# Altium footprint library Conn_JST_BM02B-SRSS-TB_LF_SN_eec_0.PcbLib: 1 footprints
Each footprint in its own frame and in the unit in brackets; x right, y up, seen from the top. Pads: shape width x height; smd on the part's side, far side on the other; paste and mask are expansions set on the pad; w line width, h text height; cw(c..) or ccw(c..) is an arc to the next point about the centre after c.
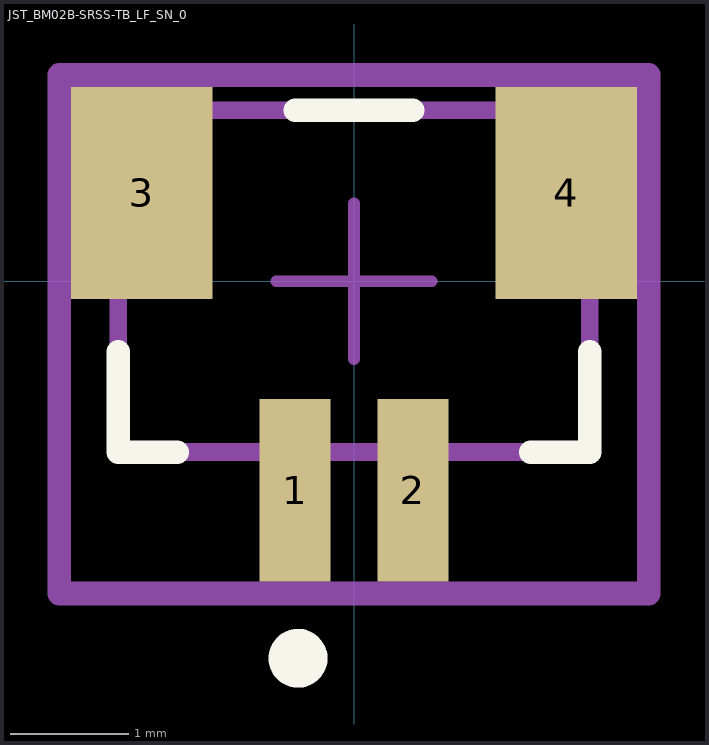
[diagram p0: the footprint, top view; thin cyan lines are the x and y axes]

## JST_BM02B-SRSS-TB_LF_SN_0 [mm]
pads (4):
  rect 0.6x1.55 smd paste+0 mask+0: 1(-0.5,-1.775) 2(0.5,-1.775)
  rect 1.2x1.8 smd paste+0 mask+0: 3(-1.8,0.75) 4(1.8,0.75)
Top Overlay:
  circle w0.25: c-0.475,-3.2 r0.125
  lines w0.2: -2,-0.6 -2,-1.45 -1.5,-1.45 ; -0.5,1.45 0.5,1.45 ; 1.5,-1.45 2,-1.45 2,-0.6
Mechanical 10:
  lines w0.2: -2.5,-2.65 2.5,-2.65 2.5,1.75 -2.5,1.75 -2.5,-2.65
  text ".Designator" at 0,-0.45 h1
Mechanical 12:
  lines w0.15: -2,-1.45 2,-1.45 2,1.45 -2,1.45 -2,-1.45
Mechanical 15:
  lines w0.1: -0.66,0 0.66,0 ; 0,-0.66 0,0.66
  lines w0.2: -2.5,-2.65 2.5,-2.65 2.5,1.75 -2.5,1.75 -2.5,-2.65
3D body "3dmodel.step": height 0.25, standoff 0, extent -2.5,-2.65 2.5,1.75